# Altium schematic symbol library HCPL-3120.SchLib: 1 symbol
Pins are listed as number, name and electrical type; pins without a type are passive.

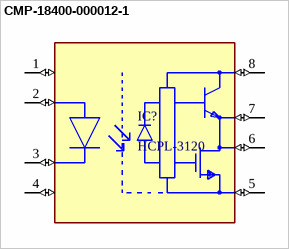
[diagram p0: symbol CMP-18400-000012-1]

## CMP-18400-000012-1
designator IC?, comment HCPL-3120
OPTOISO 3.75KV 1CH GATE DVR 8DIP
footprint PCBComponent_1
pins: 1 NC (io), 2 A (io), 3 K (io), 4 NC (io), 5 VEE (io), 6 VO (io), 7 VO (io), 8 VCC (io)